# Altium schematic symbol library IRF8010.SchLib: 1 symbol
Pins are listed as number, name and electrical type; pins without a type are passive.

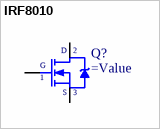
[diagram p0: symbol IRF8010]

## IRF8010
designator Q?
=Description
pins: 1 G, 2 D, 3 S